# Altium integrated library TI_Logic_Specialty_Logic.IntLib: 2504 symbols (part 33 of 81)
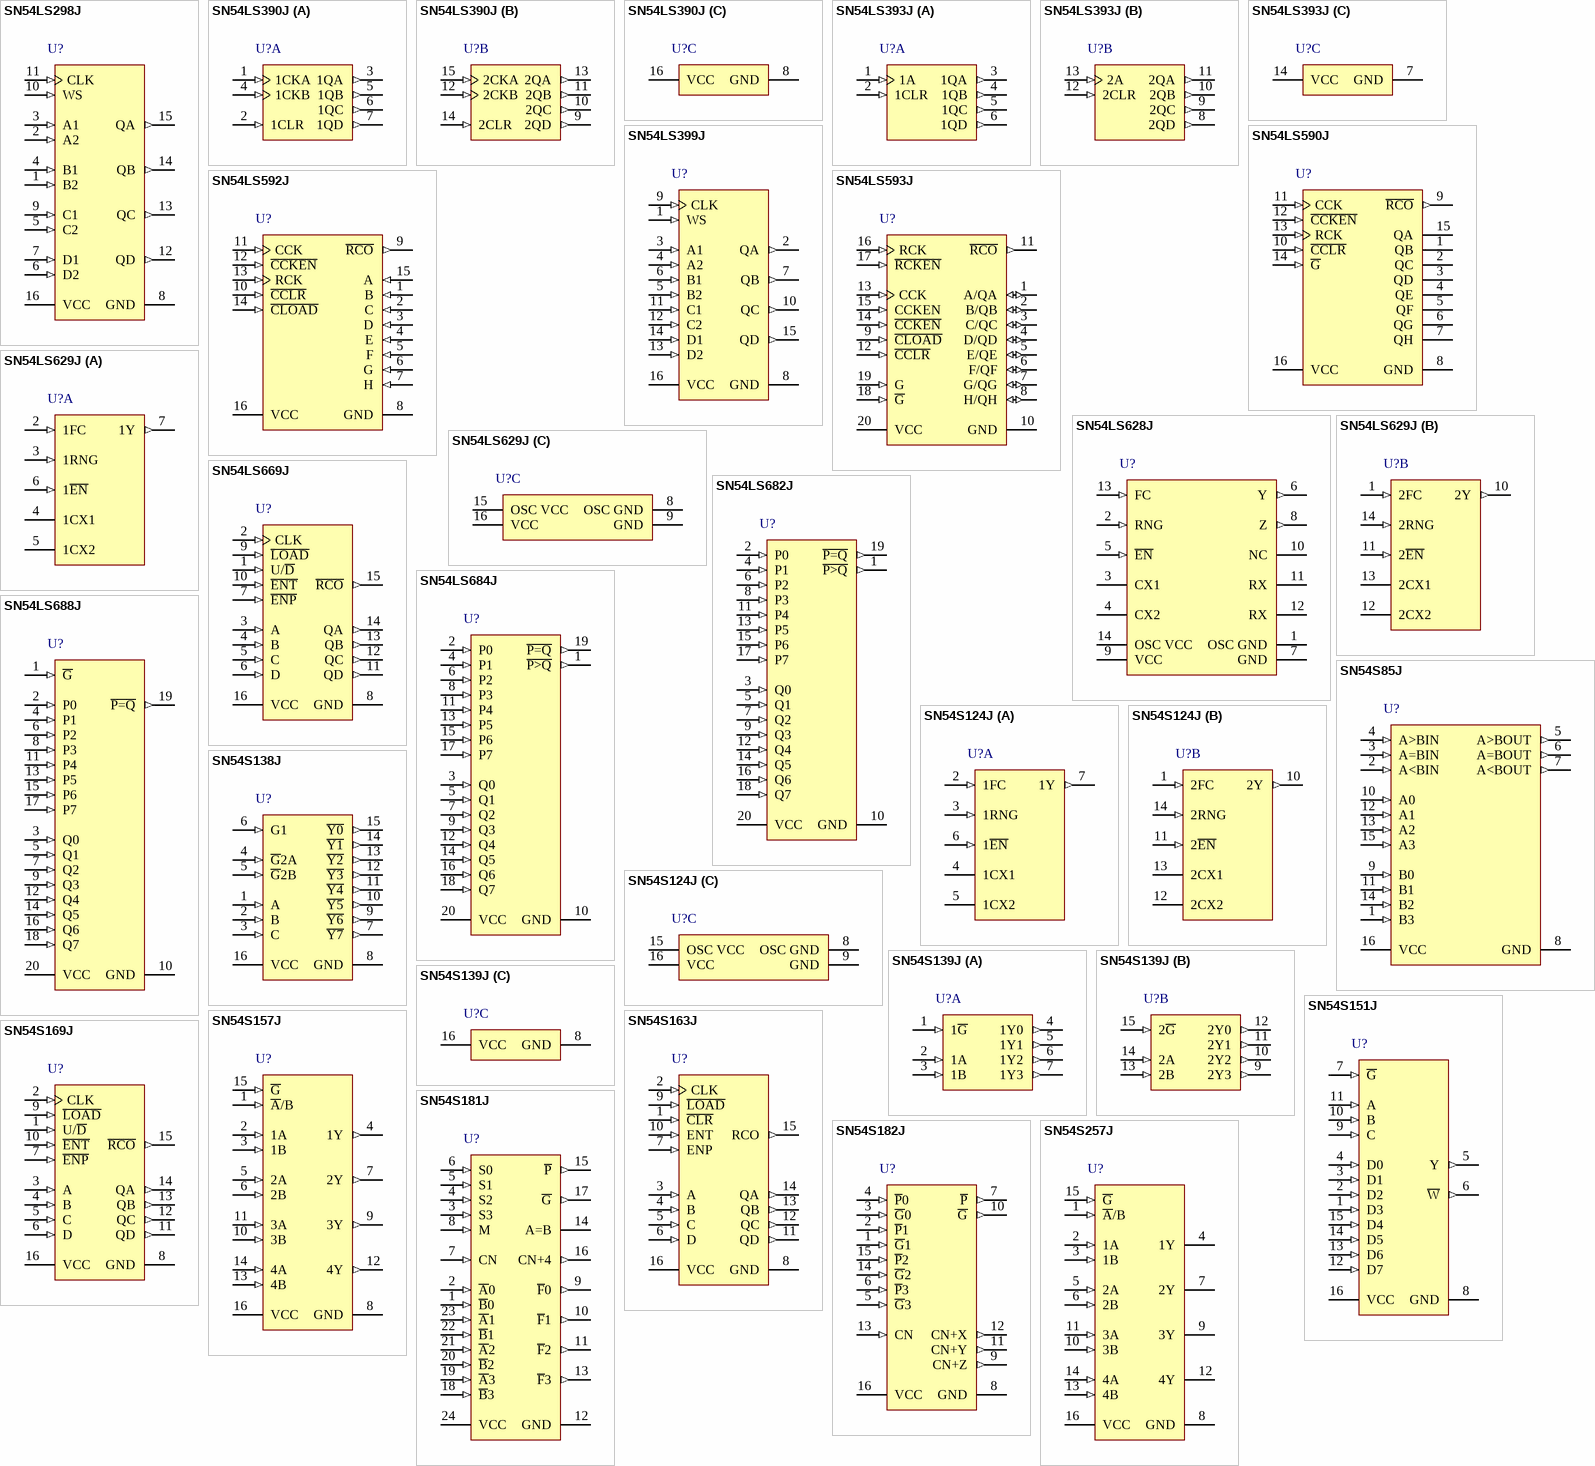
[diagram p136: symbols SN54LS298J to SN54S257J]

## SN54LS669J
designator U?
Synchronous 4-Bit Up/Down Counters, J0016A, TUBE; Generic Part Number: SN54LS669; Manufacturer: Texas Instruments; PartNumber: SN54LS669J; Rating: Military; Technology Family: LS; DatasheetVersion: SDLS192; PackageReference: J0016A; Operating Temperature Range(C): -55 to 125; ComponentLink1Description: Manufacturer URL; ComponentLink1URL: http://www.ti.com/; ComponentLink2Description: Datasheet; ComponentLink2URL: http://www.ti.com/lit/ds/symlink/sn54ls669.pdf; ComponentLink3Description: Package Specification; ComponentLink3URL: http://www.ti.com/lit/ml/mcer002d/mcer002d.pdf
footprint J0016A (DIP, 16-Leads, Body 21.35x7.2mm, Pitch 2.54mm)
pins: 1 U/~{D} (in), 2 CLK (in), 3 A (in), 4 B (in), 5 C (in), 6 D (in), 7 ~{ENP} (in), 8 GND (power), 9 ~{LOAD} (in), 10 ~{ENT} (in), 11 QD (out), 12 QC (out), 13 QB (out), 14 QA (out), 15 ~{RCO} (out), 16 VCC (power)

## SN54LS682J
designator U?
8-Bit Identity/Magnitude Comparators, J0020A, TUBE; Generic Part Number: SN54LS682; Manufacturer: Texas Instruments; PartNumber: SN54LS682J; VCC(Min)(V): 4.85; VCC(Max)(V): 5.25; Output Type: TTL; ICC @ Nom Voltage(Max)(mA): 70; Bits(#): 8; Rating: Military; Technology Family: LS; Output Drive (IOL/IOH)(Max)(mA): 24/-0.4; tpd @ Nom Voltage(Max)(ns): 30; DatasheetVersion: SDLS008; PackageReference: J0020A; Input Type: TTL; Operating Temperature Range(C): -55 to 125; ComponentLink1Description: Manufacturer URL; ComponentLink1URL: http://www.ti.com/; ComponentLink2Description: Datasheet; ComponentLink2URL: http://www.ti.com/lit/ds/symlink/sn54ls682.pdf
footprint J0020A (DIP, 20-Leads, Body 26.9x7.2mm, Pitch 2.54mm)
pins: 1 ~{P>Q} (out), 2 P0 (in), 3 Q0 (in), 4 P1 (in), 5 Q1 (in), 6 P2 (in), 7 Q2 (in), 8 P3 (in), 9 Q3 (in), 10 GND (power), 11 P4 (in), 12 Q4 (in), 13 P5 (in), 14 Q5 (in), 15 P6 (in), 16 Q6 (in), 17 P7 (in), 18 Q7 (in), 19 ~{P=Q} (out), 20 VCC (power)

## SN54LS684J
designator U?
8-Bit Identity/Magnitude Comparators, J0020A, TUBE; Generic Part Number: SN54LS684; Manufacturer: Texas Instruments; PartNumber: SN54LS684J; VCC(Min)(V): 4.85; VCC(Max)(V): 5.25; Output Type: TTL; ICC @ Nom Voltage(Max)(mA): 65; Bits(#): 8; Rating: Military; Technology Family: LS; Output Drive (IOL/IOH)(Max)(mA): 24/-0.4; tpd @ Nom Voltage(Max)(ns): 30; DatasheetVersion: SDLS008; PackageReference: J0020A; Input Type: TTL; Operating Temperature Range(C): -55 to 125; ComponentLink1Description: Manufacturer URL; ComponentLink1URL: http://www.ti.com/; ComponentLink2Description: Datasheet; ComponentLink2URL: http://www.ti.com/lit/ds/symlink/sn54ls684.pdf
footprint J0020A (DIP, 20-Leads, Body 26.9x7.2mm, Pitch 2.54mm)
pins: 1 ~{P>Q} (out), 2 P0 (in), 3 Q0 (in), 4 P1 (in), 5 Q1 (in), 6 P2 (in), 7 Q2 (in), 8 P3 (in), 9 Q3 (in), 10 GND (power), 11 P4 (in), 12 Q4 (in), 13 P5 (in), 14 Q5 (in), 15 P6 (in), 16 Q6 (in), 17 P7 (in), 18 Q7 (in), 19 ~{P=Q} (out), 20 VCC (power)

## SN54LS688J
designator U?
8-Bit Identity/Magnitude Comparators (P=Q) with Enable, J0020A, TUBE; Generic Part Number: SN54LS688; Manufacturer: Texas Instruments; PartNumber: SN54LS688J; VCC(Min)(V): 4.85; VCC(Max)(V): 5.25; Output Type: TTL; ICC @ Nom Voltage(Max)(mA): 65; Bits(#): 8; Rating: Military; Technology Family: LS; Output Drive (IOL/IOH)(Max)(mA): 24/-0.4; tpd @ Nom Voltage(Max)(ns): 23; DatasheetVersion: SDLS008; PackageReference: J0020A; Input Type: TTL; Operating Temperature Range(C): -55 to 125; ComponentLink1Description: Manufacturer URL; ComponentLink1URL: http://www.ti.com/; ComponentLink2Description: Datasheet; ComponentLink2URL: http://www.ti.com/lit/ds/symlink/sn54ls688.pdf
footprint J0020A (DIP, 20-Leads, Body 26.9x7.2mm, Pitch 2.54mm)
pins: 1 ~{G} (in), 2 P0 (in), 3 Q0 (in), 4 P1 (in), 5 Q1 (in), 6 P2 (in), 7 Q2 (in), 8 P3 (in), 9 Q3 (in), 10 GND (power), 11 P4 (in), 12 Q4 (in), 13 P5 (in), 14 Q5 (in), 15 P6 (in), 16 Q6 (in), 17 P7 (in), 18 Q7 (in), 19 ~{P=Q} (out), 20 VCC (power)

## SN54S85J
designator U?
4-Bit Magnitude Comparators, J0016A, TUBE; Generic Part Number: SN54S85; Manufacturer: Texas Instruments; PartNumber: SN54S85J; VCC(Min)(V): 4.75; VCC(Max)(V): 5.25; Output Type: TTL; ICC @ Nom Voltage(Max)(mA): 110; Bits(#): 4; Rating: Military; Technology Family: S; Output Drive (IOL/IOH)(Max)(mA): 20/-1; tpd @ Nom Voltage(Max)(ns): 18; DatasheetVersion: SDLS123; PackageReference: J0016A; Input Type: TTL; Operating Temperature Range(C): -55 to 125; ComponentLink1Description: Manufacturer URL; ComponentLink1URL: http://www.ti.com/; ComponentLink2Description: Datasheet; ComponentLink2URL: http://www.ti.com/lit/ds/symlink/sn54s85.pdf
footprint J0016A (DIP, 16-Leads, Body 21.35x7.2mm, Pitch 2.54mm)
pins: 1 B3 (in), 2 A<BIN (in), 3 A=BIN (in), 4 A>BIN (in), 5 A>BOUT (out), 6 A=BOUT (out), 7 A<BOUT (out), 8 GND (power), 9 B0 (in), 10 A0 (in), 11 B1 (in), 12 A1 (in), 13 A2 (in), 14 B2 (in), 15 A3 (in), 16 VCC (power)

## SN54S124J
designator U?
Dual Voltage-Controlled Oscillators, J0016A, TUBE; Generic Part Number: SN54S124; Manufacturer: Texas Instruments; PartNumber: SN54S124J; VCC(Min)(V): 4.75; VCC(Max)(V): 5.25; Output Type: TTL; ICC @ Nom Voltage(Max)(mA): 150; Bits(#): 1; Rating: Military; Technology Family: S; Voltage(Nom)(V): 5; Schmitt Trigger: No; Output Drive (IOL/IOH)(Max)(mA): 20/-1; tpd @ Nom Voltage(Max)(ns): 70; DatasheetVersion: SDLS201A; PackageReference: J0016A; Input Type: TTL; Operating Temperature Range(C): -55 to 125; ComponentLink1Description: Manufacturer URL; ComponentLink1URL: http://www.ti.com/; ComponentLink2Description: Datasheet; ComponentLink2URL: http://www.ti.com/lit/ds/symlink/sn54s124.pdf
footprint J0016A (DIP, 16-Leads, Body 21.35x7.2mm, Pitch 2.54mm)
part A pins: 2 1FC (in), 3 1RNG (in), 4 1CX1, 5 1CX2, 6 1~{EN} (in), 7 1Y (out)
part B pins: 1 2FC (in), 10 2Y (out), 11 2~{EN} (in), 12 2CX2, 13 2CX1, 14 2RNG (in)
part C pins: 8 OSC GND (power), 9 GND (power), 15 OSC VCC (power), 16 VCC (power)

## SN54S138J
designator U?
3-Line To 8-Line Decoders/Demultiplexers, J0016A, TUBE; Generic Part Number: SN54S138; Manufacturer: Texas Instruments; PartNumber: SN54S138J; Rating: Military; Technology Family: S; Schmitt Trigger: No; DatasheetVersion: SDLS014; PackageReference: J0016A; Operating Temperature Range(C): -55 to 125; ComponentLink1Description: Manufacturer URL; ComponentLink1URL: http://www.ti.com/; ComponentLink2Description: Datasheet; ComponentLink2URL: http://www.ti.com/lit/ds/symlink/sn54s138.pdf; ComponentLink3Description: Package Specification; ComponentLink3URL: http://www.ti.com/lit/ml/mcer002d/mcer002d.pdf
footprint J0016A (DIP, 16-Leads, Body 21.35x7.2mm, Pitch 2.54mm)
pins: 1 A (in), 2 B (in), 3 C (in), 4 ~{G}2A (in), 5 ~{G}2B (in), 6 G1 (in), 7 ~{Y7} (out), 8 GND (power), 9 ~{Y6} (out), 10 ~{Y5} (out), 11 ~{Y4} (out), 12 ~{Y3} (out), 13 ~{Y2} (out), 14 ~{Y1} (out), 15 ~{Y0} (out), 16 VCC (power)

## SN54S139J
designator U?
Dual 2-Line To 4-Line Decoders/Demultiplexers, J0016A, TUBE; Generic Part Number: SN54S139; Manufacturer: Texas Instruments; PartNumber: SN54S139J; Rating: Military; Technology Family: S; Schmitt Trigger: No; DatasheetVersion: SDLS013A; PackageReference: J0016A; Operating Temperature Range(C): -55 to 125; ComponentLink1Description: Manufacturer URL; ComponentLink1URL: http://www.ti.com/; ComponentLink2Description: Datasheet; ComponentLink2URL: http://www.ti.com/lit/ds/symlink/sn54s139.pdf; ComponentLink3Description: Package Specification; ComponentLink3URL: http://www.ti.com/lit/ml/mcer002d/mcer002d.pdf
footprint J0016A (DIP, 16-Leads, Body 21.35x7.2mm, Pitch 2.54mm)
part A pins: 1 1~{G} (in), 2 1A (in), 3 1B (in), 4 1Y0 (out), 5 1Y1 (out), 6 1Y2 (out), 7 1Y3 (out)
part B pins: 9 2Y3 (out), 10 2Y2 (out), 11 2Y1 (out), 12 2Y0 (out), 13 2B (in), 14 2A (in), 15 2~{G} (in)
part C pins: 8 GND (power), 16 VCC (power)

## SN54S151J
designator U?
Data Selectors/Multiplexers, J0016A, TUBE; Generic Part Number: SN54S151; Manufacturer: Texas Instruments; PartNumber: SN54S151J; VCC(Min)(V): 4.5; VCC(Max)(V): 5.5; Rating: Military; Technology Family: S; Schmitt Trigger: No; DatasheetVersion: SDLS054; PackageReference: J0016A; Operating Temperature Range(C): -55 to 125; ComponentLink1Description: Manufacturer URL; ComponentLink1URL: http://www.ti.com/; ComponentLink2Description: Datasheet; ComponentLink2URL: http://www.ti.com/lit/ds/symlink/sn54s151.pdf; ComponentLink3Description: Package Specification; ComponentLink3URL: http://www.ti.com/lit/ml/mcer002d/mcer002d.pdf
footprint J0016A (DIP, 16-Leads, Body 21.35x7.2mm, Pitch 2.54mm)
pins: 1 D3 (in), 2 D2 (in), 3 D1 (in), 4 D0 (in), 5 Y (out), 6 ~{W} (out), 7 ~{G} (in), 8 GND (power), 9 C (in), 10 B (in), 11 A (in), 12 D7 (in), 13 D6 (in), 14 D5 (in), 15 D4 (in), 16 VCC (power)

## SN54S157J
designator U?
Quadruple 2-Line To 1-Line Data Selectors/Multiplexers, J0016A, TUBE; Generic Part Number: SN54S157; Manufacturer: Texas Instruments; PartNumber: SN54S157J; VCC(Min)(V): 4.5; VCC(Max)(V): 5.5; Rating: Military; Technology Family: S; Schmitt Trigger: No; DatasheetVersion: SDLS058; PackageReference: J0016A; Operating Temperature Range(C): -55 to 125; ComponentLink1Description: Manufacturer URL; ComponentLink1URL: http://www.ti.com/; ComponentLink2Description: Datasheet; ComponentLink2URL: http://www.ti.com/lit/ds/symlink/sn54s157.pdf; ComponentLink3Description: Package Specification; ComponentLink3URL: http://www.ti.com/lit/ml/mcer002d/mcer002d.pdf
footprint J0016A (DIP, 16-Leads, Body 21.35x7.2mm, Pitch 2.54mm)
pins: 1 ~{A}/B (in), 2 1A (in), 3 1B (in), 4 1Y (out), 5 2A (in), 6 2B (in), 7 2Y (out), 8 GND (power), 9 3Y (out), 10 3B (in), 11 3A (in), 12 4Y (out), 13 4B (in), 14 4A (in), 15 ~{G} (in), 16 VCC (power)

## SN54S163J
designator U?
Synchronous 4-Bit Counters, J0016A, TUBE; Generic Part Number: SN54S163; Manufacturer: Texas Instruments; PartNumber: SN54S163J; VCC(Min)(V): 4.75; VCC(Max)(V): 5.25; Inputs: 1; ICC @ Nom Voltage(Max)(mA): 160; Bits(#): 4; F @ Nom Voltage(Max)(Mhz): 50; Rating: Military; Technology Family: S; Output Drive (IOL/IOH)(Max)(mA): 20/-1; tpd @ Nom Voltage(Max)(ns): 25; DatasheetVersion: SDLS060; PackageReference: J0016A; Function: Counter; Operating Temperature Range(C): -55 to 125; Type: Binary; ComponentLink1Description: Manufacturer URL; ComponentLink1URL: http://www.ti.com/; ComponentLink2Description: Datasheet; ComponentLink2URL: http://www.ti.com/lit/ds/symlink/sn54s163.pdf; ComponentLink3Description: Package Specification; ComponentLink3URL: http://www.ti.com/lit/ml/mcer002d/mcer002d.pdf
footprint J0016A (DIP, 16-Leads, Body 21.35x7.2mm, Pitch 2.54mm)
pins: 1 ~{CLR} (in), 2 CLK (in), 3 A (in), 4 B (in), 5 C (in), 6 D (in), 7 ENP (in), 8 GND (power), 9 ~{LOAD} (in), 10 ENT (in), 11 QD (out), 12 QC (out), 13 QB (out), 14 QA (out), 15 RCO (out), 16 VCC (power)

## SN54S169J
designator U?
Synchronous 4-Bit Up/Down Binary Counters, J0016A, TUBE; Generic Part Number: SN54S169; Manufacturer: Texas Instruments; PartNumber: SN54S169J; Rating: Military; Technology Family: S; DatasheetVersion: SDLS134; PackageReference: J0016A; Operating Temperature Range(C): -55 to 125; ComponentLink1Description: Manufacturer URL; ComponentLink1URL: http://www.ti.com/; ComponentLink2Description: Datasheet; ComponentLink2URL: http://www.ti.com/lit/ds/symlink/sn54s169.pdf; ComponentLink3Description: Package Specification; ComponentLink3URL: http://www.ti.com/lit/ml/mcer002d/mcer002d.pdf
footprint J0016A (DIP, 16-Leads, Body 21.35x7.2mm, Pitch 2.54mm)
pins: 1 U/~{D} (in), 2 CLK (in), 3 A (in), 4 B (in), 5 C (in), 6 D (in), 7 ~{ENP} (in), 8 GND (power), 9 ~{LOAD} (in), 10 ~{ENT} (in), 11 QD (out), 12 QC (out), 13 QB (out), 14 QA (out), 15 ~{RCO} (out), 16 VCC (power)

## SN54S181J
designator U?
Arithmetic Logic Units/Function Generators, J0024A, TUBE; Generic Part Number: SN54S181; Manufacturer: Texas Instruments; PartNumber: SN54S181J; Rating: Military; Technology Family: S; DatasheetVersion: SDLS136; PackageReference: J0024A; Operating Temperature Range(C): -55 to 125; ComponentLink1Description: Manufacturer URL; ComponentLink1URL: http://www.ti.com/; ComponentLink2Description: Datasheet; ComponentLink2URL: http://www.ti.com/lit/ds/symlink/sn54s181.pdf; ComponentLink3Description: Package Specification; ComponentLink3URL: http://www.ti.com/lit/ml/mcer002d/mcer002d.pdf
footprint J0024A (DIP, 24-Leads, Body 32.15x14.85mm, Pitch 2.54mm)
pins: 1 ~{B}0 (in), 2 ~{A}0 (in), 3 S3 (in), 4 S2 (in), 5 S1 (in), 6 S0 (in), 7 CN (in), 8 M (in), 9 ~{F}0 (out), 10 ~{F}1 (out), 11 ~{F}2 (out), 12 GND (power), 13 ~{F}3 (out), 14 A=B (oc), 15 ~{P} (out), 16 CN+4 (out), 17 ~{G} (out), 18 ~{B}3 (in), 19 ~{A}3 (in), 20 ~{B}2 (in), 21 ~{A}2 (in), 22 ~{B}1 (in), 23 ~{A}1 (in), 24 VCC (power)

## SN54S182J
designator U?
Look-Ahead Carry Generators, J0016A, TUBE; Generic Part Number: SN54S182; Manufacturer: Texas Instruments; PartNumber: SN54S182J; Rating: Military; Technology Family: S; DatasheetVersion: SDLS206; PackageReference: J0016A; Operating Temperature Range(C): -55 to 125; ComponentLink1Description: Manufacturer URL; ComponentLink1URL: http://www.ti.com/; ComponentLink2Description: Datasheet; ComponentLink2URL: http://www.ti.com/lit/ds/symlink/sn54s182.pdf; ComponentLink3Description: Package Specification; ComponentLink3URL: http://www.ti.com/lit/ml/mcer002d/mcer002d.pdf
footprint J0016A (DIP, 16-Leads, Body 21.35x7.2mm, Pitch 2.54mm)
pins: 1 ~{G}1 (in), 2 ~{P}1 (in), 3 ~{G}0 (in), 4 ~{P}0 (in), 5 ~{G}3 (in), 6 ~{P}3 (in), 7 ~{P} (out), 8 GND (power), 9 CN+Z (out), 10 ~{G} (out), 11 CN+Y (out), 12 CN+X (out), 13 CN (in), 14 ~{G}2 (in), 15 ~{P}2 (in), 16 VCC (power)

## SN54S257J
designator U?
Quadruple 2-Line To 1-Line Data Selectors/Multiplexers, J0016A, TUBE; Generic Part Number: SN54S257; Manufacturer: Texas Instruments; PartNumber: SN54S257J; VCC(Min)(V): 4.5; VCC(Max)(V): 5.5; Rating: Military; Technology Family: S; Schmitt Trigger: No; DatasheetVersion: SDLS148; PackageReference: J0016A; Operating Temperature Range(C): -55 to 125; ComponentLink1Description: Manufacturer URL; ComponentLink1URL: http://www.ti.com/; ComponentLink2Description: Datasheet; ComponentLink2URL: http://www.ti.com/lit/ds/symlink/sn54s257.pdf; ComponentLink3Description: Package Specification; ComponentLink3URL: http://www.ti.com/lit/ml/mcer002d/mcer002d.pdf
footprint J0016A (DIP, 16-Leads, Body 21.35x7.2mm, Pitch 2.54mm)
pins: 1 ~{A}/B (in), 2 1A (in), 3 1B (in), 4 1Y (hiz), 5 2A (in), 6 2B (in), 7 2Y (hiz), 8 GND (power), 9 3Y (hiz), 10 3B (in), 11 3A (in), 12 4Y (hiz), 13 4B (in), 14 4A (in), 15 ~{G} (in), 16 VCC (power)

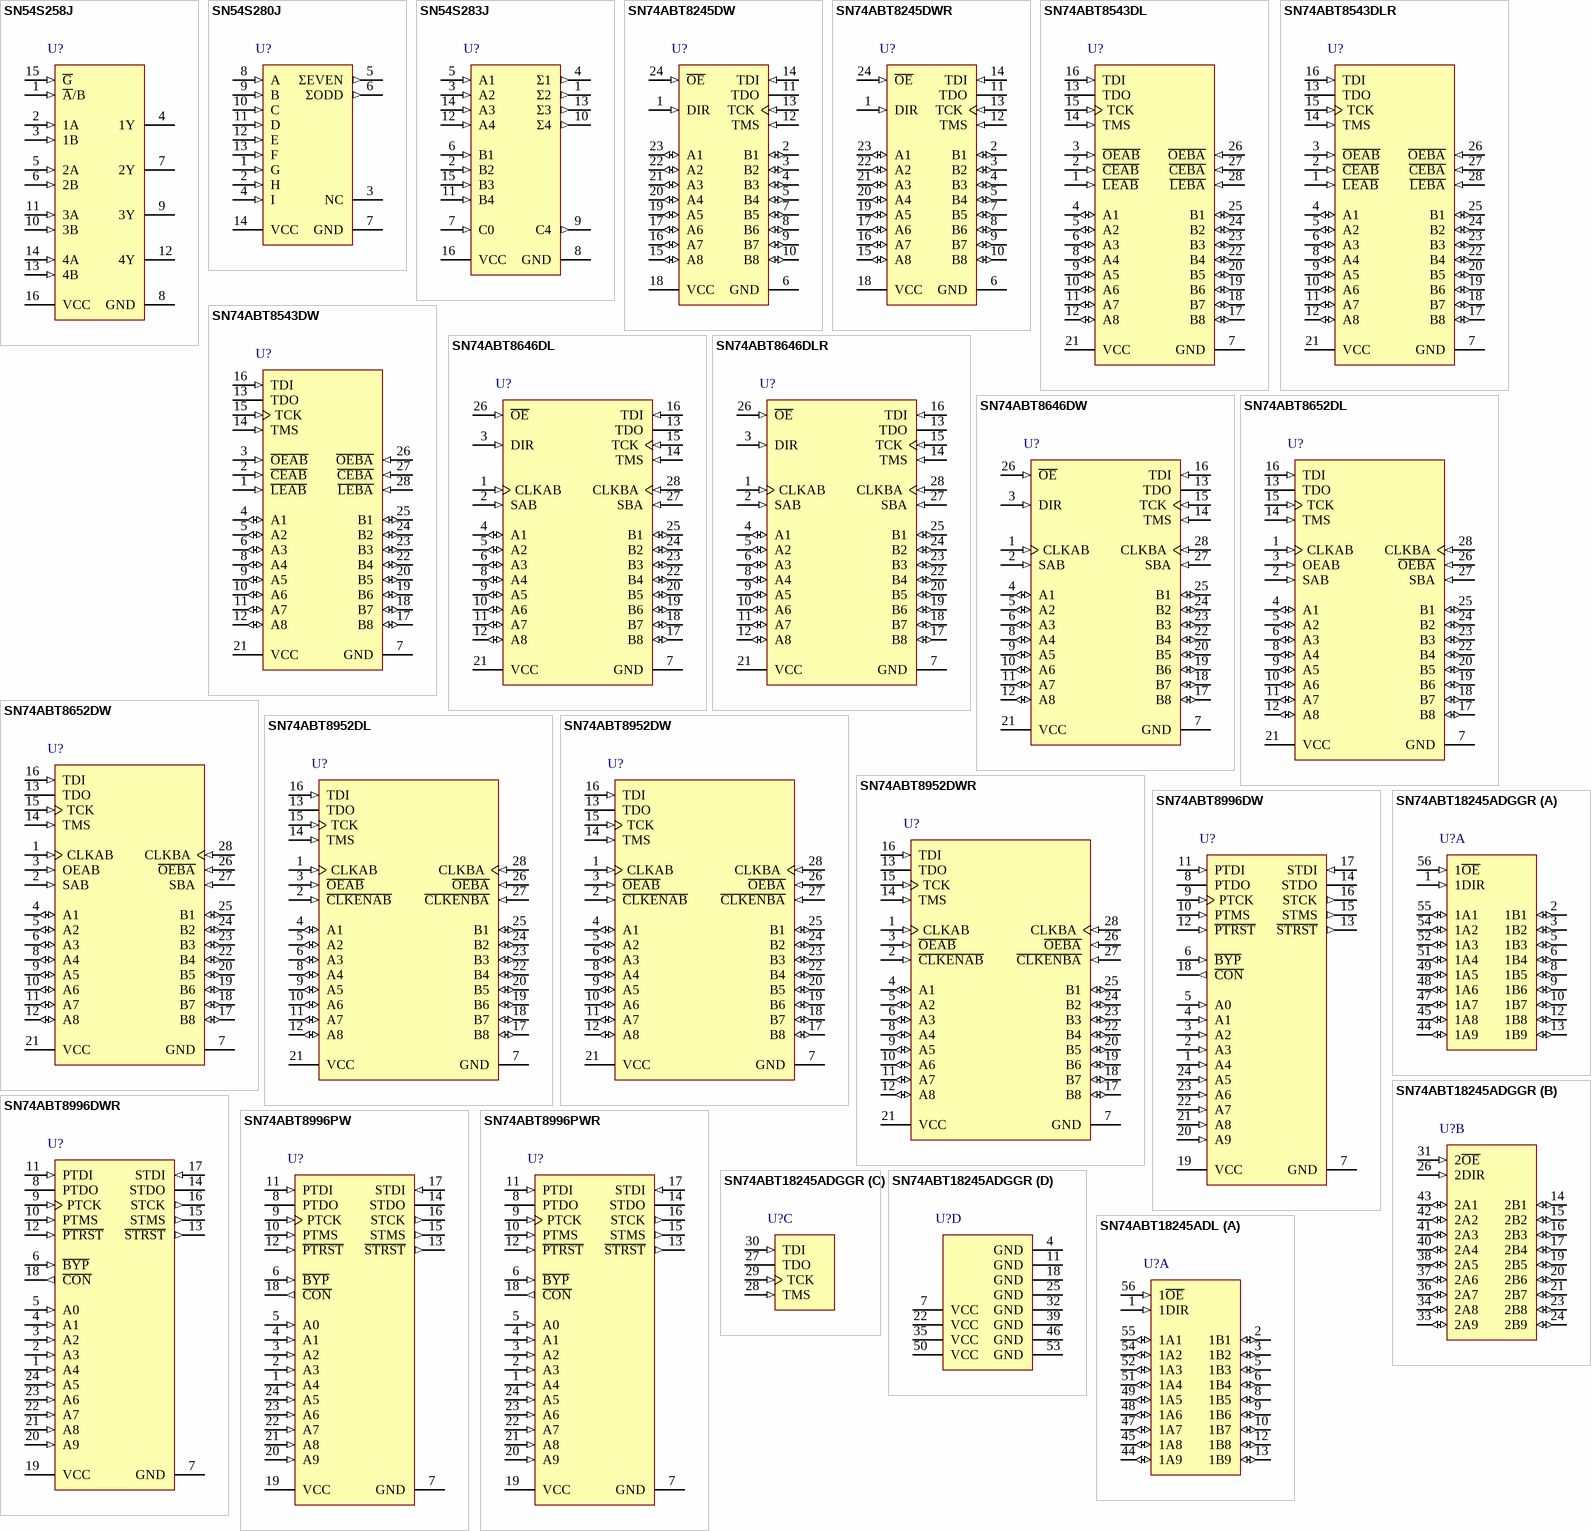
[diagram p46: symbols SN54S258J to SN74ABT18245ADL]

## SN54S258J
designator U?
Quadruple 2-Line To 1-Line Data Selectors/Multiplexers, J0016A, TUBE; Generic Part Number: SN54S258; Manufacturer: Texas Instruments; PartNumber: SN54S258J; VCC(Min)(V): 4.5; VCC(Max)(V): 5.5; Rating: Military; Technology Family: S; Schmitt Trigger: No; DatasheetVersion: SDLS148; PackageReference: J0016A; Operating Temperature Range(C): -55 to 125; ComponentLink1Description: Manufacturer URL; ComponentLink1URL: http://www.ti.com/; ComponentLink2Description: Datasheet; ComponentLink2URL: http://www.ti.com/lit/ds/symlink/sn54s258.pdf; ComponentLink3Description: Package Specification; ComponentLink3URL: http://www.ti.com/lit/ml/mcer002d/mcer002d.pdf
footprint J0016A (DIP, 16-Leads, Body 21.35x7.2mm, Pitch 2.54mm)
pins: 1 ~{A}/B (in), 2 1A (in), 3 1B (in), 4 1Y (hiz), 5 2A (in), 6 2B (in), 7 2Y (hiz), 8 GND (power), 9 3Y (hiz), 10 3B (in), 11 3A (in), 12 4Y (hiz), 13 4B (in), 14 4A (in), 15 ~{G} (in), 16 VCC (power)

## SN54S280J
designator U?
9-Bit Odd/Even Parity Generators/Checkers, J0014A, TUBE; Generic Part Number: SN54S280; Manufacturer: Texas Instruments; PartNumber: SN54S280J; Rating: Military; Technology Family: S; DatasheetVersion: SDLS152; PackageReference: J0014A; Operating Temperature Range(C): -55 to 125; ComponentLink1Description: Manufacturer URL; ComponentLink1URL: http://www.ti.com/; ComponentLink2Description: Datasheet; ComponentLink2URL: http://www.ti.com/lit/ds/symlink/sn54s280.pdf; ComponentLink3Description: Package Specification; ComponentLink3URL: http://www.ti.com/lit/ml/mcer002d/mcer002d.pdf
footprint J0014A (DIP, 14-Leads, Body 19.95x7.2mm, Pitch 2.54mm)
pins: 1 G (in), 2 H (in), 3 NC, 4 I (in), 5 ΣEVEN (out), 6 ΣODD (out), 7 GND (power), 8 A (in), 9 B (in), 10 C (in), 11 D (in), 12 E (in), 13 F (in), 14 VCC (power)

## SN54S283J
designator U?
4-Bit Binary Full Adders With Fast Carry, J0016A, TUBE; Generic Part Number: SN54S283; Manufacturer: Texas Instruments; PartNumber: SN54S283J; VCC(Min)(V): 4.75; VCC(Max)(V): 5.25; Inputs: 9; Function: Arithmetic; ICC @ Nom Voltage(Max)(mA): 160; Bits(#): 4; F @ Nom Voltage(Max)(Mhz): 50; Rating: Military; Technology Family: S; Output Drive (IOL/IOH)(Max)(mA): 20/-1; tpd @ Nom Voltage(Max)(ns): 18; DatasheetVersion: SDLS095A; PackageReference: J0016A; Operating Temperature Range(C): -55 to 125; Type: Binary; ComponentLink1Description: Manufacturer URL; ComponentLink1URL: http://www.ti.com/; ComponentLink2Description: Datasheet; ComponentLink2URL: http://www.ti.com/lit/ds/symlink/sn54s283.pdf; ComponentLink3Description: Package Specification; ComponentLink3URL: http://www.ti.com/lit/ml/mcer002d/mcer002d.pdf
footprint J0016A (DIP, 16-Leads, Body 21.35x7.2mm, Pitch 2.54mm)
pins: 1 Σ2 (out), 2 B2 (in), 3 A2 (in), 4 Σ1 (out), 5 A1 (in), 6 B1 (in), 7 C0 (in), 8 GND (power), 9 C4 (out), 10 Σ4 (out), 11 B4 (in), 12 A4 (in), 13 Σ3 (out), 14 A3 (in), 15 B3 (in), 16 VCC (power)

## SN74ABT8245DW
designator U?
Scan Test Devices With Octal Bus Transceivers, DW0024A, TUBE; Generic Part Number: SN74ABT8245; Manufacturer: Texas Instruments; PartNumber: SN74ABT8245DW; VCC(Min)(V): 4.5; VCC(Max)(V): 5.5; Output Type: TTL; ICC @ Nom Voltage(Max)(mA): 38; Bits(#): 8; F @ Nom Voltage(Max)(Mhz): 150; Rating: Catalog; Technology Family: ABT; Voltage(Nom)(V): 5; Output Drive (IOL/IOH)(Max)(mA): 64/-32; Output Logic: True; tpd @ Nom Voltage(Max)(ns): 5.8; DatasheetVersion: SCBS124D; PackageReference: DW0024A; Supplier 1: Mouser; Supplier Part Number 1: 595-SN74ABT8245DW; Supplier 2: Digi-Key; Supplier Part Number 2: 296-4093-5-ND; Input Type: TTL; Operating Temperature Range(C): -40 to 85; ComponentLink1Description: Manufacturer URL; ComponentLink1URL: http://www.ti.com/; ComponentLink2Description: Datasheet; ComponentLink2URL: http://www.ti.com/lit/ds/symlink/sn74abt8245.pdf
footprint DW0024A_N (SOIC, 24-Leads, Body 15.6x7.6mm, Pitch 1.27mm, IPC Medium Density)
footprint DW0024A_M (SOIC, 24-Leads, Body 15.6x7.6mm, Pitch 1.27mm, IPC Low Density)
footprint DW0024A_L (SOIC, 24-Leads, Body 15.6x7.6mm, Pitch 1.27mm, IPC High Density)
pins: 1 DIR (in) "Normal-function direction-control input. See function table for normal-mode logic.", 2 B1 (io) "Normal-function B-bus I/O ports. See function table for normal-mode logic.", 3 B2 (io) "Normal-function B-bus I/O ports. See function table for normal-mode logic.", 4 B3 (io) "Normal-function B-bus I/O ports. See function table for normal-mode logic.", 5 B4 (io) "Normal-function B-bus I/O ports. See function table for normal-mode logic.", 6 GND (power) "Ground", 7 B5 (io) "Normal-function B-bus I/O ports. See function table for normal-mode logic.", 8 B6 (io) "Normal-function B-bus I/O ports. See function table for normal-mode logic.", 9 B7 (io) "Normal-function B-bus I/O ports. See function table for normal-mode logic.", 10 B8 (io) "Normal-function B-bus I/O ports. See function table for normal-mode logic.", 11 TDO (hiz) "Test data output. One of four terminals required by IEEE Standard 1149.1-1990. TDO is the serial output for shifting data through the instruction register or selected data register.", 12 TMS (in) "Test mode select. One of four terminals required by IEEE Standard 1149.1-1990. TMS input directs the device through its TAP controller states. An internal pullup forces TMS to a high level if left unconnected.", 13 TCK (in) "Test clock. One of four terminals required by IEEE Standard 1149.1-1990. Test operations of the device are synchronous to TCK. Data is captured on the rising edge of TCK and outputs change on the falling edge of TCK.", 14 TDI (in) "Test data input. One of four terminals required by IEEE Standard 1149.1-1990. TDI is the serial input for shifting data through the instruction register or selected data register. An internal pullup forces TDI to a high (See Datasheet)", 15 A8 (io) "Normal-function A-bus I/O ports. See function table for normal-mode logic.", 16 A7 (io) "Normal-function A-bus I/O ports. See function table for normal-mode logic.", 17 A6 (io) "Normal-function A-bus I/O ports. See function table for normal-mode logic.", 18 VCC (power) "Supply voltage", 19 A5 (io) "Normal-function A-bus I/O ports. See function table for normal-mode logic.", 20 A4 (io) "Normal-function A-bus I/O ports. See function table for normal-mode logic.", 21 A3 (io) "Normal-function A-bus I/O ports. See function table for normal-mode logic.", 22 A2 (io) "Normal-function A-bus I/O ports. See function table for normal-mode logic.", 23 A1 (io) "Normal-function A-bus I/O ports. See function table for normal-mode logic.", 24 ~{OE} (in) "Normal-function output-enable input. See function table for normal-mode logic."

## SN74ABT8245DWR
designator U?
Scan Test Devices With Octal Bus Transceivers, DW0024A, LARGE T&R; Generic Part Number: SN74ABT8245; Manufacturer: Texas Instruments; PartNumber: SN74ABT8245DWR; VCC(Min)(V): 4.5; VCC(Max)(V): 5.5; Output Type: TTL; ICC @ Nom Voltage(Max)(mA): 38; Bits(#): 8; F @ Nom Voltage(Max)(Mhz): 150; Rating: Catalog; Technology Family: ABT; Voltage(Nom)(V): 5; Output Drive (IOL/IOH)(Max)(mA): 64/-32; Output Logic: True; tpd @ Nom Voltage(Max)(ns): 5.8; DatasheetVersion: SCBS124D; PackageReference: DW0024A; Supplier 1: Mouser; Supplier Part Number 1: 595-SN74ABT8245DWR; Supplier 2: Digi-Key; Supplier Part Number 2: 296-14679-2-ND; Supplier 3: Digi-Key; Supplier Part Number 3: 296-14679-1-ND; Supplier 4: Digi-Key; Supplier Part Number 4: 296-14679-6-ND; Input Type: TTL; Operating Temperature Range(C): -40 to 85; ComponentLink1Description: Manufacturer URL; ComponentLink1URL: http://www.ti.com/; ComponentLink2Description: Datasheet; ComponentLink2URL: http://www.ti.com/lit/ds/symlink/sn74abt8245.pdf
footprint DW0024A_N (SOIC, 24-Leads, Body 15.6x7.6mm, Pitch 1.27mm, IPC Medium Density)
footprint DW0024A_M (SOIC, 24-Leads, Body 15.6x7.6mm, Pitch 1.27mm, IPC Low Density)
footprint DW0024A_L (SOIC, 24-Leads, Body 15.6x7.6mm, Pitch 1.27mm, IPC High Density)
pins: 1 DIR (in) "Normal-function direction-control input. See function table for normal-mode logic.", 2 B1 (io) "Normal-function B-bus I/O ports. See function table for normal-mode logic.", 3 B2 (io) "Normal-function B-bus I/O ports. See function table for normal-mode logic.", 4 B3 (io) "Normal-function B-bus I/O ports. See function table for normal-mode logic.", 5 B4 (io) "Normal-function B-bus I/O ports. See function table for normal-mode logic.", 6 GND (power) "Ground", 7 B5 (io) "Normal-function B-bus I/O ports. See function table for normal-mode logic.", 8 B6 (io) "Normal-function B-bus I/O ports. See function table for normal-mode logic.", 9 B7 (io) "Normal-function B-bus I/O ports. See function table for normal-mode logic.", 10 B8 (io) "Normal-function B-bus I/O ports. See function table for normal-mode logic.", 11 TDO (hiz) "Test data output. One of four terminals required by IEEE Standard 1149.1-1990. TDO is the serial output for shifting data through the instruction register or selected data register.", 12 TMS (in) "Test mode select. One of four terminals required by IEEE Standard 1149.1-1990. TMS input directs the device through its TAP controller states. An internal pullup forces TMS to a high level if left unconnected.", 13 TCK (in) "Test clock. One of four terminals required by IEEE Standard 1149.1-1990. Test operations of the device are synchronous to TCK. Data is captured on the rising edge of TCK and outputs change on the falling edge of TCK.", 14 TDI (in) "Test data input. One of four terminals required by IEEE Standard 1149.1-1990. TDI is the serial input for shifting data through the instruction register or selected data register. An internal pullup forces TDI to a high (See Datasheet)", 15 A8 (io) "Normal-function A-bus I/O ports. See function table for normal-mode logic.", 16 A7 (io) "Normal-function A-bus I/O ports. See function table for normal-mode logic.", 17 A6 (io) "Normal-function A-bus I/O ports. See function table for normal-mode logic.", 18 VCC (power) "Supply voltage", 19 A5 (io) "Normal-function A-bus I/O ports. See function table for normal-mode logic.", 20 A4 (io) "Normal-function A-bus I/O ports. See function table for normal-mode logic.", 21 A3 (io) "Normal-function A-bus I/O ports. See function table for normal-mode logic.", 22 A2 (io) "Normal-function A-bus I/O ports. See function table for normal-mode logic.", 23 A1 (io) "Normal-function A-bus I/O ports. See function table for normal-mode logic.", 24 ~{OE} (in) "Normal-function output-enable input. See function table for normal-mode logic."

## SN74ABT8543DL
designator U?
Scan Test Devices With Octal Registered Bus Transceivers, DL0028A, TUBE; Generic Part Number: SN74ABT8543; Manufacturer: Texas Instruments; PartNumber: SN74ABT8543DL; VCC(Min)(V): 4.5; VCC(Max)(V): 5.5; Output Type: TTL; ICC @ Nom Voltage(Max)(mA): 38; Bits(#): 8; F @ Nom Voltage(Max)(Mhz): 150; Rating: Catalog; Technology Family: ABT; Voltage(Nom)(V): 5; Output Drive (IOL/IOH)(Max)(mA): 64/-32; Output Logic: True; tpd @ Nom Voltage(Max)(ns): 5.8; DatasheetVersion: SCBS120E; PackageReference: DL0028A; Supplier 1: Mouser; Supplier Part Number 1: 595-SN74ABT8543DL; Supplier 2: Digi-Key; Supplier Part Number 2: 296-4107-5-ND; Input Type: TTL; Operating Temperature Range(C): -40 to 85; ComponentLink1Description: Manufacturer URL; ComponentLink1URL: http://www.ti.com/; ComponentLink2Description: Datasheet; ComponentLink2URL: http://www.ti.com/lit/ds/symlink/sn74abt8543.pdf
footprint DL0028A_N (SOP, 28-Leads, Body 7.6x9.7mm, Pitch 0.635mm, IPC Medium Density)
footprint DL0028A_M (SOP, 28-Leads, Body 7.6x9.7mm, Pitch 0.635mm, IPC Low Density)
footprint DL0028A_L (SOP, 28-Leads, Body 7.6x9.7mm, Pitch 0.635mm, IPC High Density)
pins: 1 ~{LEAB} (in) "Normal-function latch-enable inputs. See function table for normal-mode logic.", 2 ~{CEAB} (in) "Normal-function chip-enable inputs. See function table for normal-mode logic.", 3 ~{OEAB} (in) "Normal-function output-enable inputs. See function table for normal-mode logic.", 4 A1 (io) "Normal-function A-bus I/O ports. See function table for normal-mode logic.", 5 A2 (io) "Normal-function A-bus I/O ports. See function table for normal-mode logic.", 6 A3 (io) "Normal-function A-bus I/O ports. See function table for normal-mode logic.", 7 GND (power) "Ground", 8 A4 (io) "Normal-function A-bus I/O ports. See function table for normal-mode logic.", 9 A5 (io) "Normal-function A-bus I/O ports. See function table for normal-mode logic.", 10 A6 (io) "Normal-function A-bus I/O ports. See function table for normal-mode logic.", 11 A7 (io) "Normal-function A-bus I/O ports. See function table for normal-mode logic.", 12 A8 (io) "Normal-function A-bus I/O ports. See function table for normal-mode logic.", 13 TDO (hiz) "Test data output. One of four terminals required by IEEE Standard 1149.1-1990. TDO is the serial output for shifting data through the instruction register or selected data register.", 14 TMS (in) "Test mode select. One of four terminals required by IEEE Standard 1149.1-1990. TMS directs the device through its TAP controller states. An internal pullup forces TMS to a high level if left unconnected.", 15 TCK (in) "Test clock. One of four terminals required by IEEE Standard 1149.1-1990. Test operations of the device are synchronous to TCK. Data is captured on the rising edge of TCK, and outputs change on the falling edge of TCK.", 16 TDI (in) "Test data input. One of four terminals required by IEEE Standard 1149.1-1990. TDI is the serial input for shifting data through the instruction register or selected data register. An internal pullup forces TDI to a high (See Datasheet)", 17 B8 (io) "Normal-function B-bus I/O ports. See function table for normal-mode logic.", 18 B7 (io) "Normal-function B-bus I/O ports. See function table for normal-mode logic.", 19 B6 (io) "Normal-function B-bus I/O ports. See function table for normal-mode logic.", 20 B5 (io) "Normal-function B-bus I/O ports. See function table for normal-mode logic.", 21 VCC (power) "Supply voltage", 22 B4 (io) "Normal-function B-bus I/O ports. See function table for normal-mode logic.", 23 B3 (io) "Normal-function B-bus I/O ports. See function table for normal-mode logic.", 24 B2 (io) "Normal-function B-bus I/O ports. See function table for normal-mode logic.", 25 B1 (io) "Normal-function B-bus I/O ports. See function table for normal-mode logic.", 26 ~{OEBA} (in) "Normal-function output-enable inputs. See function table for normal-mode logic.", 27 ~{CEBA} (in) "Normal-function chip-enable inputs. See function table for normal-mode logic.", 28 ~{LEBA} (in) "Normal-function latch-enable inputs. See function table for normal-mode logic."

## SN74ABT8543DLR
designator U?
Scan Test Devices With Octal Registered Bus Transceivers, DL0028A, LARGE T&R; Generic Part Number: SN74ABT8543; Manufacturer: Texas Instruments; PartNumber: SN74ABT8543DLR; VCC(Min)(V): 4.5; VCC(Max)(V): 5.5; Output Type: TTL; ICC @ Nom Voltage(Max)(mA): 38; Bits(#): 8; F @ Nom Voltage(Max)(Mhz): 150; Rating: Catalog; Technology Family: ABT; Voltage(Nom)(V): 5; Output Drive (IOL/IOH)(Max)(mA): 64/-32; Output Logic: True; tpd @ Nom Voltage(Max)(ns): 5.8; DatasheetVersion: SCBS120E; PackageReference: DL0028A; Supplier 1: Mouser; Supplier Part Number 1: 595-SN74ABT8543DLR; Supplier 2: Digi-Key; Supplier Part Number 2: SN74ABT8543DLR-ND; Input Type: TTL; Operating Temperature Range(C): -40 to 85; ComponentLink1Description: Manufacturer URL; ComponentLink1URL: http://www.ti.com/; ComponentLink2Description: Datasheet; ComponentLink2URL: http://www.ti.com/lit/ds/symlink/sn74abt8543.pdf
footprint DL0028A_N (SOP, 28-Leads, Body 7.6x9.7mm, Pitch 0.635mm, IPC Medium Density)
footprint DL0028A_M (SOP, 28-Leads, Body 7.6x9.7mm, Pitch 0.635mm, IPC Low Density)
footprint DL0028A_L (SOP, 28-Leads, Body 7.6x9.7mm, Pitch 0.635mm, IPC High Density)
pins: 1 ~{LEAB} (in) "Normal-function latch-enable inputs. See function table for normal-mode logic.", 2 ~{CEAB} (in) "Normal-function chip-enable inputs. See function table for normal-mode logic.", 3 ~{OEAB} (in) "Normal-function output-enable inputs. See function table for normal-mode logic.", 4 A1 (io) "Normal-function A-bus I/O ports. See function table for normal-mode logic.", 5 A2 (io) "Normal-function A-bus I/O ports. See function table for normal-mode logic.", 6 A3 (io) "Normal-function A-bus I/O ports. See function table for normal-mode logic.", 7 GND (power) "Ground", 8 A4 (io) "Normal-function A-bus I/O ports. See function table for normal-mode logic.", 9 A5 (io) "Normal-function A-bus I/O ports. See function table for normal-mode logic.", 10 A6 (io) "Normal-function A-bus I/O ports. See function table for normal-mode logic.", 11 A7 (io) "Normal-function A-bus I/O ports. See function table for normal-mode logic.", 12 A8 (io) "Normal-function A-bus I/O ports. See function table for normal-mode logic.", 13 TDO (hiz) "Test data output. One of four terminals required by IEEE Standard 1149.1-1990. TDO is the serial output for shifting data through the instruction register or selected data register.", 14 TMS (in) "Test mode select. One of four terminals required by IEEE Standard 1149.1-1990. TMS directs the device through its TAP controller states. An internal pullup forces TMS to a high level if left unconnected.", 15 TCK (in) "Test clock. One of four terminals required by IEEE Standard 1149.1-1990. Test operations of the device are synchronous to TCK. Data is captured on the rising edge of TCK, and outputs change on the falling edge of TCK.", 16 TDI (in) "Test data input. One of four terminals required by IEEE Standard 1149.1-1990. TDI is the serial input for shifting data through the instruction register or selected data register. An internal pullup forces TDI to a high (See Datasheet)", 17 B8 (io) "Normal-function B-bus I/O ports. See function table for normal-mode logic.", 18 B7 (io) "Normal-function B-bus I/O ports. See function table for normal-mode logic.", 19 B6 (io) "Normal-function B-bus I/O ports. See function table for normal-mode logic.", 20 B5 (io) "Normal-function B-bus I/O ports. See function table for normal-mode logic.", 21 VCC (power) "Supply voltage", 22 B4 (io) "Normal-function B-bus I/O ports. See function table for normal-mode logic.", 23 B3 (io) "Normal-function B-bus I/O ports. See function table for normal-mode logic.", 24 B2 (io) "Normal-function B-bus I/O ports. See function table for normal-mode logic.", 25 B1 (io) "Normal-function B-bus I/O ports. See function table for normal-mode logic.", 26 ~{OEBA} (in) "Normal-function output-enable inputs. See function table for normal-mode logic.", 27 ~{CEBA} (in) "Normal-function chip-enable inputs. See function table for normal-mode logic.", 28 ~{LEBA} (in) "Normal-function latch-enable inputs. See function table for normal-mode logic."

## SN74ABT8543DW
designator U?
Scan Test Devices With Octal Registered Bus Transceivers, DW0028A, TUBE; Generic Part Number: SN74ABT8543; Manufacturer: Texas Instruments; PartNumber: SN74ABT8543DW; VCC(Min)(V): 4.5; VCC(Max)(V): 5.5; Output Type: TTL; ICC @ Nom Voltage(Max)(mA): 38; Bits(#): 8; F @ Nom Voltage(Max)(Mhz): 150; Rating: Catalog; Technology Family: ABT; Voltage(Nom)(V): 5; Output Drive (IOL/IOH)(Max)(mA): 64/-32; Output Logic: True; tpd @ Nom Voltage(Max)(ns): 5.8; DatasheetVersion: SCBS120E; PackageReference: DW0028A; Supplier 1: Mouser; Supplier Part Number 1: 595-SN74ABT8543DW; Supplier 2: Digi-Key; Supplier Part Number 2: 296-4108-5-ND; Input Type: TTL; Operating Temperature Range(C): -40 to 85; ComponentLink1Description: Manufacturer URL; ComponentLink1URL: http://www.ti.com/; ComponentLink2Description: Datasheet; ComponentLink2URL: http://www.ti.com/lit/ds/symlink/sn74abt8543.pdf
footprint DW0028A_N (SOIC, 28-Leads, Body 18.1x7.6mm, Pitch 1.27mm, IPC Medium Density)
footprint DW0028A_M (SOIC, 28-Leads, Body 18.1x7.6mm, Pitch 1.27mm, IPC Low Density)
footprint DW0028A_L (SOIC, 28-Leads, Body 18.1x7.6mm, Pitch 1.27mm, IPC High Density)
pins: 1 ~{LEAB} (in) "Normal-function latch-enable inputs. See function table for normal-mode logic.", 2 ~{CEAB} (in) "Normal-function chip-enable inputs. See function table for normal-mode logic.", 3 ~{OEAB} (in) "Normal-function output-enable inputs. See function table for normal-mode logic.", 4 A1 (io) "Normal-function A-bus I/O ports. See function table for normal-mode logic.", 5 A2 (io) "Normal-function A-bus I/O ports. See function table for normal-mode logic.", 6 A3 (io) "Normal-function A-bus I/O ports. See function table for normal-mode logic.", 7 GND (power) "Ground", 8 A4 (io) "Normal-function A-bus I/O ports. See function table for normal-mode logic.", 9 A5 (io) "Normal-function A-bus I/O ports. See function table for normal-mode logic.", 10 A6 (io) "Normal-function A-bus I/O ports. See function table for normal-mode logic.", 11 A7 (io) "Normal-function A-bus I/O ports. See function table for normal-mode logic.", 12 A8 (io) "Normal-function A-bus I/O ports. See function table for normal-mode logic.", 13 TDO (hiz) "Test data output. One of four terminals required by IEEE Standard 1149.1-1990. TDO is the serial output for shifting data through the instruction register or selected data register.", 14 TMS (in) "Test mode select. One of four terminals required by IEEE Standard 1149.1-1990. TMS directs the device through its TAP controller states. An internal pullup forces TMS to a high level if left unconnected.", 15 TCK (in) "Test clock. One of four terminals required by IEEE Standard 1149.1-1990. Test operations of the device are synchronous to TCK. Data is captured on the rising edge of TCK, and outputs change on the falling edge of TCK.", 16 TDI (in) "Test data input. One of four terminals required by IEEE Standard 1149.1-1990. TDI is the serial input for shifting data through the instruction register or selected data register. An internal pullup forces TDI to a high (See Datasheet)", 17 B8 (io) "Normal-function B-bus I/O ports. See function table for normal-mode logic.", 18 B7 (io) "Normal-function B-bus I/O ports. See function table for normal-mode logic.", 19 B6 (io) "Normal-function B-bus I/O ports. See function table for normal-mode logic.", 20 B5 (io) "Normal-function B-bus I/O ports. See function table for normal-mode logic.", 21 VCC (power) "Supply voltage", 22 B4 (io) "Normal-function B-bus I/O ports. See function table for normal-mode logic.", 23 B3 (io) "Normal-function B-bus I/O ports. See function table for normal-mode logic.", 24 B2 (io) "Normal-function B-bus I/O ports. See function table for normal-mode logic.", 25 B1 (io) "Normal-function B-bus I/O ports. See function table for normal-mode logic.", 26 ~{OEBA} (in) "Normal-function output-enable inputs. See function table for normal-mode logic.", 27 ~{CEBA} (in) "Normal-function chip-enable inputs. See function table for normal-mode logic.", 28 ~{LEBA} (in) "Normal-function latch-enable inputs. See function table for normal-mode logic."

## SN74ABT8646DL
designator U?
Scan Test Devices With Octal Bus Transceivers And Registers, DL0028A, TUBE; Generic Part Number: SN74ABT8646; Manufacturer: Texas Instruments; PartNumber: SN74ABT8646DL; VCC(Min)(V): 4.5; VCC(Max)(V): 5.5; Output Type: TTL; ICC @ Nom Voltage(Max)(mA): 38; Bits(#): 8; F @ Nom Voltage(Max)(Mhz): 150; Rating: Catalog; Technology Family: ABT; Voltage(Nom)(V): 5; Output Drive (IOL/IOH)(Max)(mA): 64/-32; Output Logic: True; tpd @ Nom Voltage(Max)(ns): 5.8; DatasheetVersion: SCBS123F; PackageReference: DL0028A; Supplier 1: Mouser; Supplier Part Number 1: 595-SN74ABT8646DL; Supplier 2: Digi-Key; Supplier Part Number 2: 296-4112-5-ND; Input Type: TTL; Operating Temperature Range(C): -40 to 85; ComponentLink1Description: Manufacturer URL; ComponentLink1URL: http://www.ti.com/; ComponentLink2Description: Datasheet; ComponentLink2URL: http://www.ti.com/lit/ds/symlink/sn74abt8646.pdf
footprint DL0028A_N (SOP, 28-Leads, Body 7.6x9.7mm, Pitch 0.635mm, IPC Medium Density)
footprint DL0028A_M (SOP, 28-Leads, Body 7.6x9.7mm, Pitch 0.635mm, IPC Low Density)
footprint DL0028A_L (SOP, 28-Leads, Body 7.6x9.7mm, Pitch 0.635mm, IPC High Density)
pins: 1 CLKAB (in) "Normal-function clock inputs. See function table for normal-mode logic.", 2 SAB (in) "Normal-function select inputs. See function table for normal-mode logic.", 3 DIR (in) "Normal-function direction-control input. See function table for normal-mode logic.", 4 A1 (io) "Normal-function A-bus I/O ports. See function table for normal-mode logic.", 5 A2 (io) "Normal-function A-bus I/O ports. See function table for normal-mode logic.", 6 A3 (io) "Normal-function A-bus I/O ports. See function table for normal-mode logic.", 7 GND (power) "Ground", 8 A4 (io) "Normal-function A-bus I/O ports. See function table for normal-mode logic.", 9 A5 (io) "Normal-function A-bus I/O ports. See function table for normal-mode logic.", 10 A6 (io) "Normal-function A-bus I/O ports. See function table for normal-mode logic.", 11 A7 (io) "Normal-function A-bus I/O ports. See function table for normal-mode logic.", 12 A8 (io) "Normal-function A-bus I/O ports. See function table for normal-mode logic.", 13 TDO (hiz) "Test data output. One of four terminals required by IEEE Standard 1149.1-1990. TDO is the serial output for shifting data through the instruction register or selected data register.", 14 TMS (in) "Test mode select. One of four terminals required by IEEE Standard 1149.1-1990. TMS input directs the device through its TAP controller states. An internal pullup forces TMS to a high level if left unconnected.", 15 TCK (in) "Test clock. One of four terminals required by IEEE Standard 1149.1-1990. Test operations of the device are synchronous to TCK. Data is captured on the rising edge of TCK, and outputs change on the falling edge of TCK.", 16 TDI (in) "Test data input. One of four terminals required by IEEE Standard 1149.1-1990. TDI is the serial input for shifting data through the instruction register or selected data register. An internal pullup forces TDI to a high (See Datasheet)", 17 B8 (io) "Normal-function B-bus I/O ports. See function table for normal-mode logic.", 18 B7 (io) "Normal-function B-bus I/O ports. See function table for normal-mode logic.", 19 B6 (io) "Normal-function B-bus I/O ports. See function table for normal-mode logic.", 20 B5 (io) "Normal-function B-bus I/O ports. See function table for normal-mode logic.", 21 VCC (power) "Supply voltage", 22 B4 (io) "Normal-function B-bus I/O ports. See function table for normal-mode logic.", 23 B3 (io) "Normal-function B-bus I/O ports. See function table for normal-mode logic.", 24 B2 (io) "Normal-function B-bus I/O ports. See function table for normal-mode logic.", 25 B1 (io) "Normal-function B-bus I/O ports. See function table for normal-mode logic.", 26 ~{OE} (in) "Normal-function output-enable input. See function table for normal-mode logic.", 27 SBA (in) "Normal-function select inputs. See function table for normal-mode logic.", 28 CLKBA (in) "Normal-function clock inputs. See function table for normal-mode logic."

## SN74ABT8646DLR
designator U?
Scan Test Devices With Octal Bus Transceivers And Registers, DL0028A, LARGE T&R; Generic Part Number: SN74ABT8646; Manufacturer: Texas Instruments; PartNumber: SN74ABT8646DLR; VCC(Min)(V): 4.5; VCC(Max)(V): 5.5; Output Type: TTL; ICC @ Nom Voltage(Max)(mA): 38; Bits(#): 8; F @ Nom Voltage(Max)(Mhz): 150; Rating: Catalog; Technology Family: ABT; Voltage(Nom)(V): 5; Output Drive (IOL/IOH)(Max)(mA): 64/-32; Output Logic: True; tpd @ Nom Voltage(Max)(ns): 5.8; DatasheetVersion: SCBS123F; PackageReference: DL0028A; Supplier 1: Mouser; Supplier Part Number 1: 595-SN74ABT8646DLR; Supplier 2: Digi-Key; Supplier Part Number 2: SN74ABT8646DLR-ND; Input Type: TTL; Operating Temperature Range(C): -40 to 85; ComponentLink1Description: Manufacturer URL; ComponentLink1URL: http://www.ti.com/; ComponentLink2Description: Datasheet; ComponentLink2URL: http://www.ti.com/lit/ds/symlink/sn74abt8646.pdf
footprint DL0028A_N (SOP, 28-Leads, Body 7.6x9.7mm, Pitch 0.635mm, IPC Medium Density)
footprint DL0028A_M (SOP, 28-Leads, Body 7.6x9.7mm, Pitch 0.635mm, IPC Low Density)
footprint DL0028A_L (SOP, 28-Leads, Body 7.6x9.7mm, Pitch 0.635mm, IPC High Density)
pins: 1 CLKAB (in) "Normal-function clock inputs. See function table for normal-mode logic.", 2 SAB (in) "Normal-function select inputs. See function table for normal-mode logic.", 3 DIR (in) "Normal-function direction-control input. See function table for normal-mode logic.", 4 A1 (io) "Normal-function A-bus I/O ports. See function table for normal-mode logic.", 5 A2 (io) "Normal-function A-bus I/O ports. See function table for normal-mode logic.", 6 A3 (io) "Normal-function A-bus I/O ports. See function table for normal-mode logic.", 7 GND (power) "Ground", 8 A4 (io) "Normal-function A-bus I/O ports. See function table for normal-mode logic.", 9 A5 (io) "Normal-function A-bus I/O ports. See function table for normal-mode logic.", 10 A6 (io) "Normal-function A-bus I/O ports. See function table for normal-mode logic.", 11 A7 (io) "Normal-function A-bus I/O ports. See function table for normal-mode logic.", 12 A8 (io) "Normal-function A-bus I/O ports. See function table for normal-mode logic.", 13 TDO (hiz) "Test data output. One of four terminals required by IEEE Standard 1149.1-1990. TDO is the serial output for shifting data through the instruction register or selected data register.", 14 TMS (in) "Test mode select. One of four terminals required by IEEE Standard 1149.1-1990. TMS input directs the device through its TAP controller states. An internal pullup forces TMS to a high level if left unconnected.", 15 TCK (in) "Test clock. One of four terminals required by IEEE Standard 1149.1-1990. Test operations of the device are synchronous to TCK. Data is captured on the rising edge of TCK, and outputs change on the falling edge of TCK.", 16 TDI (in) "Test data input. One of four terminals required by IEEE Standard 1149.1-1990. TDI is the serial input for shifting data through the instruction register or selected data register. An internal pullup forces TDI to a high (See Datasheet)", 17 B8 (io) "Normal-function B-bus I/O ports. See function table for normal-mode logic.", 18 B7 (io) "Normal-function B-bus I/O ports. See function table for normal-mode logic.", 19 B6 (io) "Normal-function B-bus I/O ports. See function table for normal-mode logic.", 20 B5 (io) "Normal-function B-bus I/O ports. See function table for normal-mode logic.", 21 VCC (power) "Supply voltage", 22 B4 (io) "Normal-function B-bus I/O ports. See function table for normal-mode logic.", 23 B3 (io) "Normal-function B-bus I/O ports. See function table for normal-mode logic.", 24 B2 (io) "Normal-function B-bus I/O ports. See function table for normal-mode logic.", 25 B1 (io) "Normal-function B-bus I/O ports. See function table for normal-mode logic.", 26 ~{OE} (in) "Normal-function output-enable input. See function table for normal-mode logic.", 27 SBA (in) "Normal-function select inputs. See function table for normal-mode logic.", 28 CLKBA (in) "Normal-function clock inputs. See function table for normal-mode logic."

## SN74ABT8646DW
designator U?
Scan Test Devices With Octal Bus Transceivers And Registers, DW0028A, TUBE; Generic Part Number: SN74ABT8646; Manufacturer: Texas Instruments; PartNumber: SN74ABT8646DW; VCC(Min)(V): 4.5; VCC(Max)(V): 5.5; Output Type: TTL; ICC @ Nom Voltage(Max)(mA): 38; Bits(#): 8; F @ Nom Voltage(Max)(Mhz): 150; Rating: Catalog; Technology Family: ABT; Voltage(Nom)(V): 5; Output Drive (IOL/IOH)(Max)(mA): 64/-32; Output Logic: True; tpd @ Nom Voltage(Max)(ns): 5.8; DatasheetVersion: SCBS123F; PackageReference: DW0028A; Supplier 1: Mouser; Supplier Part Number 1: 595-SN74ABT8646DW; Supplier 2: Digi-Key; Supplier Part Number 2: 296-4113-5-ND; Input Type: TTL; Operating Temperature Range(C): -40 to 85; ComponentLink1Description: Manufacturer URL; ComponentLink1URL: http://www.ti.com/; ComponentLink2Description: Datasheet; ComponentLink2URL: http://www.ti.com/lit/ds/symlink/sn74abt8646.pdf
footprint DW0028A_N (SOIC, 28-Leads, Body 18.1x7.6mm, Pitch 1.27mm, IPC Medium Density)
footprint DW0028A_M (SOIC, 28-Leads, Body 18.1x7.6mm, Pitch 1.27mm, IPC Low Density)
footprint DW0028A_L (SOIC, 28-Leads, Body 18.1x7.6mm, Pitch 1.27mm, IPC High Density)
pins: 1 CLKAB (in) "Normal-function clock inputs. See function table for normal-mode logic.", 2 SAB (in) "Normal-function select inputs. See function table for normal-mode logic.", 3 DIR (in) "Normal-function direction-control input. See function table for normal-mode logic.", 4 A1 (io) "Normal-function A-bus I/O ports. See function table for normal-mode logic.", 5 A2 (io) "Normal-function A-bus I/O ports. See function table for normal-mode logic.", 6 A3 (io) "Normal-function A-bus I/O ports. See function table for normal-mode logic.", 7 GND (power) "Ground", 8 A4 (io) "Normal-function A-bus I/O ports. See function table for normal-mode logic.", 9 A5 (io) "Normal-function A-bus I/O ports. See function table for normal-mode logic.", 10 A6 (io) "Normal-function A-bus I/O ports. See function table for normal-mode logic.", 11 A7 (io) "Normal-function A-bus I/O ports. See function table for normal-mode logic.", 12 A8 (io) "Normal-function A-bus I/O ports. See function table for normal-mode logic.", 13 TDO (hiz) "Test data output. One of four terminals required by IEEE Standard 1149.1-1990. TDO is the serial output for shifting data through the instruction register or selected data register.", 14 TMS (in) "Test mode select. One of four terminals required by IEEE Standard 1149.1-1990. TMS input directs the device through its TAP controller states. An internal pullup forces TMS to a high level if left unconnected.", 15 TCK (in) "Test clock. One of four terminals required by IEEE Standard 1149.1-1990. Test operations of the device are synchronous to TCK. Data is captured on the rising edge of TCK, and outputs change on the falling edge of TCK.", 16 TDI (in) "Test data input. One of four terminals required by IEEE Standard 1149.1-1990. TDI is the serial input for shifting data through the instruction register or selected data register. An internal pullup forces TDI to a high (See Datasheet)", 17 B8 (io) "Normal-function B-bus I/O ports. See function table for normal-mode logic.", 18 B7 (io) "Normal-function B-bus I/O ports. See function table for normal-mode logic.", 19 B6 (io) "Normal-function B-bus I/O ports. See function table for normal-mode logic.", 20 B5 (io) "Normal-function B-bus I/O ports. See function table for normal-mode logic.", 21 VCC (power) "Supply voltage", 22 B4 (io) "Normal-function B-bus I/O ports. See function table for normal-mode logic.", 23 B3 (io) "Normal-function B-bus I/O ports. See function table for normal-mode logic.", 24 B2 (io) "Normal-function B-bus I/O ports. See function table for normal-mode logic.", 25 B1 (io) "Normal-function B-bus I/O ports. See function table for normal-mode logic.", 26 ~{OE} (in) "Normal-function output-enable input. See function table for normal-mode logic.", 27 SBA (in) "Normal-function select inputs. See function table for normal-mode logic.", 28 CLKBA (in) "Normal-function clock inputs. See function table for normal-mode logic."